# Altium schematic symbol library FlightController_Schlib1.SchLib: 10 symbols
Pins are listed as number, name and electrical type; pins without a type are passive.

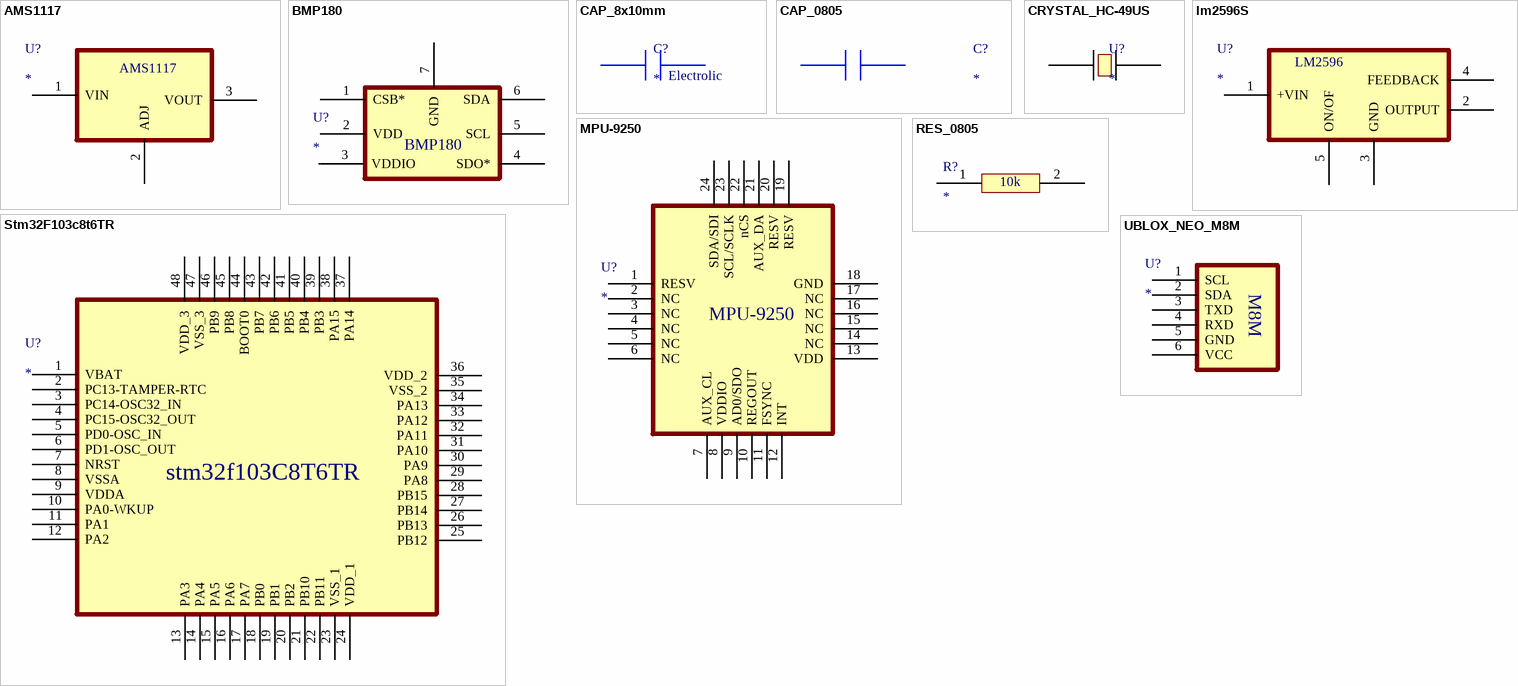
[diagram p0: symbols AMS1117 to UBLOX_NEO_M8M]

## AMS1117
designator U?
footprint AMS1117_SOT-223 (SOT223, 4-Leads, Body 6,51x7,00mm (avg), Pitch 2,29mm, IPC Medium Density)
pins: 1 VIN, 2 ADJ, 3 VOUT

## BMP180
designator U?
footprint BMP_180_LGA (LGA, 9-Leads, Body 3,80x3,60mmx1,00mm, Pitch 1,45mm)
pins: 1 CSB*, 2 VDD, 3 VDDIO, 4 SDO*, 5 SCL, 6 SDA, 7 GND

## CAP_8x10mm
designator C?
footprint CAP_8x10mm_220uF_35V (Aluminum Electrolytic Capacitor, Body 8,30x8,30x10,50mm, IPC Low Density)
pins: 1 5, 2 4
text: Electrolic

## CAP_0805
designator C?
footprint CAP_0805
pins: 1, 2 0

## CRYSTAL_HC-49US
designator U?
footprint CRYSTAL_HC-49US (SODFL, 2-Leads, Body 4,70x12,30mm, IPC Medium Density)
pins: 1 2, 2 3

## lm2596S
designator U?
footprint LM2596 (D2-PAK, 6-Pads, Body 7,55x8,57mm (max), IPC Medium Density)
pins: 1 +VIN, 2 OUTPUT, 3 GND, 4 FEEDBACK, 5 ON/OF
text: LM2596

## MPU-9250
designator U?
footprint MPU_9250_QFN
pins: 1 RESV, 2 NC, 3 NC, 4 NC, 5 NC, 6 NC, 7 AUX_CL, 8 VDDIO, 9 AD0/SDO, 10 REGOUT, 11 FSYNC, 12 INT, 13 VDD, 14 NC, 15 NC, 16 NC, 17 NC, 18 GND, 19 RESV, 20 RESV, 21 AUX_DA, 22 nCS, 23 SCL/SCLK, 24 SDA/SDI

## RES_0805
designator R?
footprint RES_0805 (Chip Resistor, 2-Leads, Body 2,00x1,25mm, IPC Medium Density)
pins: 1, 2
text: 10k

## Stm32F103c8t6TR
designator U?
footprint stm32f103c8t6tr
pins: 1 VBAT, 2 PC13-TAMPER-RTC, 3 PC14-OSC32_IN, 4 PC15-OSC32_OUT, 5 PD0-OSC_IN, 6 PD1-OSC_OUT, 7 NRST, 8 VSSA, 9 VDDA, 10 PA0-WKUP, 11 PA1, 12 PA2, 13 PA3 , 14 PA4, 15 PA5, 16 PA6, 17 PA7, 18 PB0, 19 PB1, 20 PB2, 21 PB10, 22 PB11, 23 VSS_1, 24 VDD_1, 25 PB12, 26 PB13, 27 PB14, 28 PB15, 29 PA8, 30 PA9, 31 PA10, 32 PA11, 33 PA12, 34 PA13, 35 VSS_2, 36 VDD_2, 37 PA14, 38 PA15, 39 PB3, 40 PB4, 41 PB5, 42 PB6, 43 PB7, 44 BOOT0, 45 PB8, 46 PB9, 47 VSS_3, 48 VDD_3
text: stm32f103C8T6TR

## UBLOX_NEO_M8M
designator U?
pins: 1 SCL, 2 SDA, 3 TXD, 4 RXD, 5 GND, 6 VCC
text: M8M